# EAGLE library part MC34063 (library power)
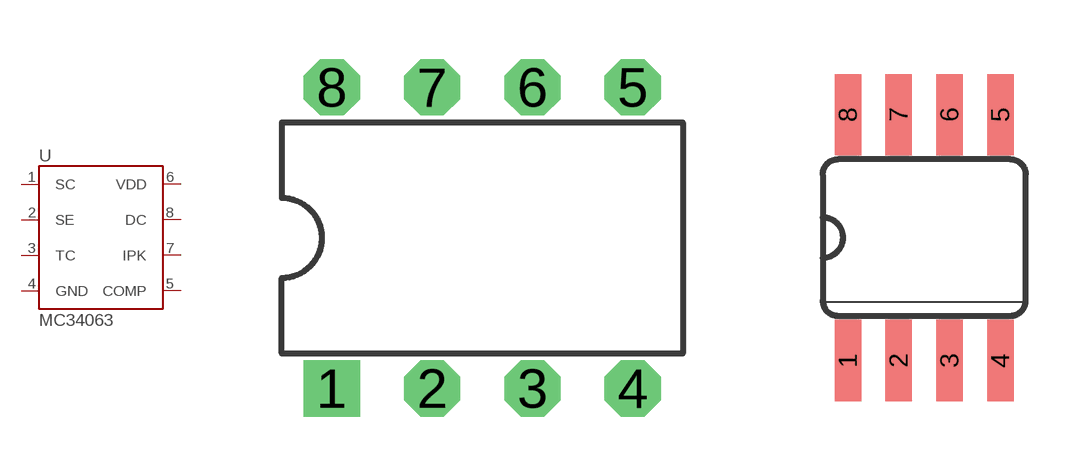
[diagram p2: symbol with the pads of DIP08; footprints DIP08, SOIC08]

Designator prefix -

## MC34063N  [DIP08]
1  SC
2  SE
3  TC
4  GND  pwr
5  COMP
6  VDD  pwr
7  IPK
8  DC

## MC34063S  [SOIC08]
Pads as for DIP08

## Footprint DIP08 (pad centres in mm)
drill 0.7 pad 1.422 square: 1 -3.81,-3.81
drill 0.7 pad 1.422 octagon: 2 -1.27,-3.81; 3 1.27,-3.81; 4 3.81,-3.81; 5 3.81,3.81; 6 1.27,3.81; 7 -1.27,3.81; 8 -3.81,3.81

## Footprint SOIC08 (pad centres in mm)
Small Outline Package
smd 0.66 x 2.032: 1 -1.905,-3.073; 2 -0.635,-3.073; 3 0.635,-3.073; 4 1.905,-3.073; 5 1.905,3.073; 6 0.635,3.073; 7 -0.635,3.073; 8 -1.905,3.073